# EAGLE library part 24FC512 (library LAN9252)
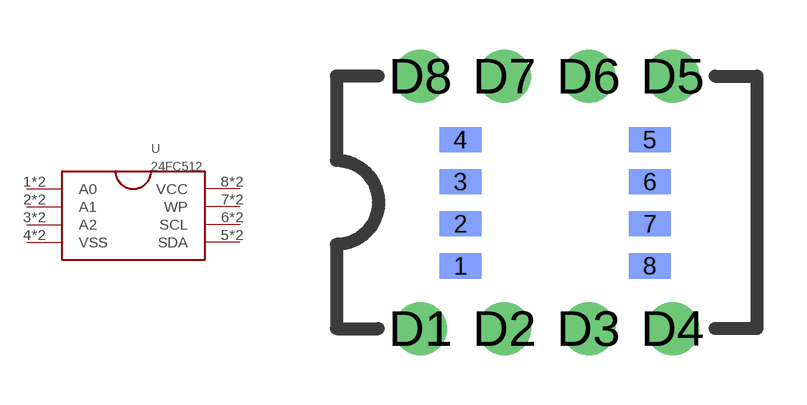
[diagram p6: symbol with the pads of SOP8; footprint SOP8]

Designator prefix U

## 24FC512  [SOP8]
1  A0
2  A1
3  A2
4  VSS
5  SDA
6  SCL
7  WP
8  VCC
D1  A0
D2  A1
D3  A2
D4  VSS
D5  SDA
D6  SCL
D7  WP
D8  VCC

## Footprint SOP8 (pad centres in mm)
Small Outline Package 8 8P2S-A Plastic 8pin 225mil SOP Source: Mitsubishi M5218AL/P/FP
smd 1.27 x 0.76 bottom: 1 -3.875,-3.189; 2 -3.875,-1.919; 3 -3.875,-0.649; 4 -3.875,0.621; 5 1.845,0.621; 6 1.845,-0.649; 7 1.845,-1.919; 8 1.845,-3.189
drill 0.8 pad 1.6: D1 -5.08,-5.08; D2 -2.54,-5.08; D3 0,-5.08; D4 2.54,-5.08; D5 2.54,2.54; D6 0,2.54; D7 -2.54,2.54; D8 -5.08,2.54